# Altium schematic symbol library PC817-B.SchLib: 2 symbols
Pins are listed as number, name and electrical type; pins without a type are passive.

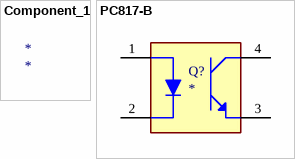
[diagram p0: symbols Component_1 to PC817-B]

## Component_1
designator *

## PC817-B
designator Q?
High Density Mounting Type Photocoupler; MF: {'manufacturer': u'American Bright'}; MP: PC817-B; Value: *; Availability: Unavailable; Package: None; Price: None
footprint DIP762W50P254L650H455Q4B
pins: 1 ANODE, 2 CATHODE, 3 EMITTER, 4 COLLECTOR